# Altium schematic symbol library MB0050A.01.A.1.SchLib: 1 symbol
Pins are listed as number, name and electrical type; pins without a type are passive.

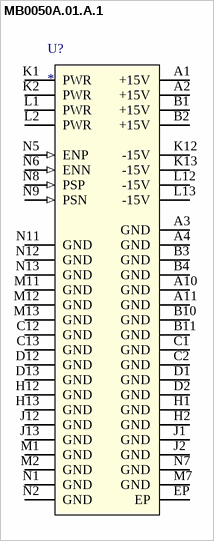
[diagram p0: symbol MB0050A.01.A.1]

## MB0050A.01.A.1
designator U?
pins: A1 +15V (power), A2 +15V (power), A3 GND (power), A4 GND (power), A10 GND (power), A11 GND (power), B1 +15V (power), B2 +15V (power), B3 GND (power), B4 GND (power), B10 GND (power), B11 GND (power), C1 GND (power), C2 GND (power), C12 GND (power), C13 GND (power), D1 GND (power), D2 GND (power), D12 GND (power), D13 GND (power), EP (power), H1 GND (power), H2 GND (power), H12 GND (power), H13 GND (power), J1 GND (power), J2 GND (power), J12 GND (power), J13 GND (power), K1 PWR (power), K2 PWR (power), K12 -15V (power), K13 -15V (power), L1 PWR (power), L2 PWR (power), L12 -15V (power), L13 -15V (power), M1 GND (power), M2 GND (power), M7 GND (power), M11 GND (power), M12 GND (power), M13 GND (power), N1 GND (power), N2 GND (power), N5 ENP (in), N6 ENN (in), N7 GND (power), N8 PSP (in), N9 PSN (in), N11 GND (power), N12 GND (power), N13 GND (power)